# Altium footprint library PCB_LA150C_RDIVER_V1.00.PcbLib: 32 footprints (part 2 of 2)
Each footprint in its own frame and in the unit in brackets; x right, y up, seen from the top. Pads: shape width x height; smd on the part's side, far side on the other; paste and mask are expansions set on the pad; w line width, h text height; cw(c..) or ccw(c..) is an arc to the next point about the centre after c.
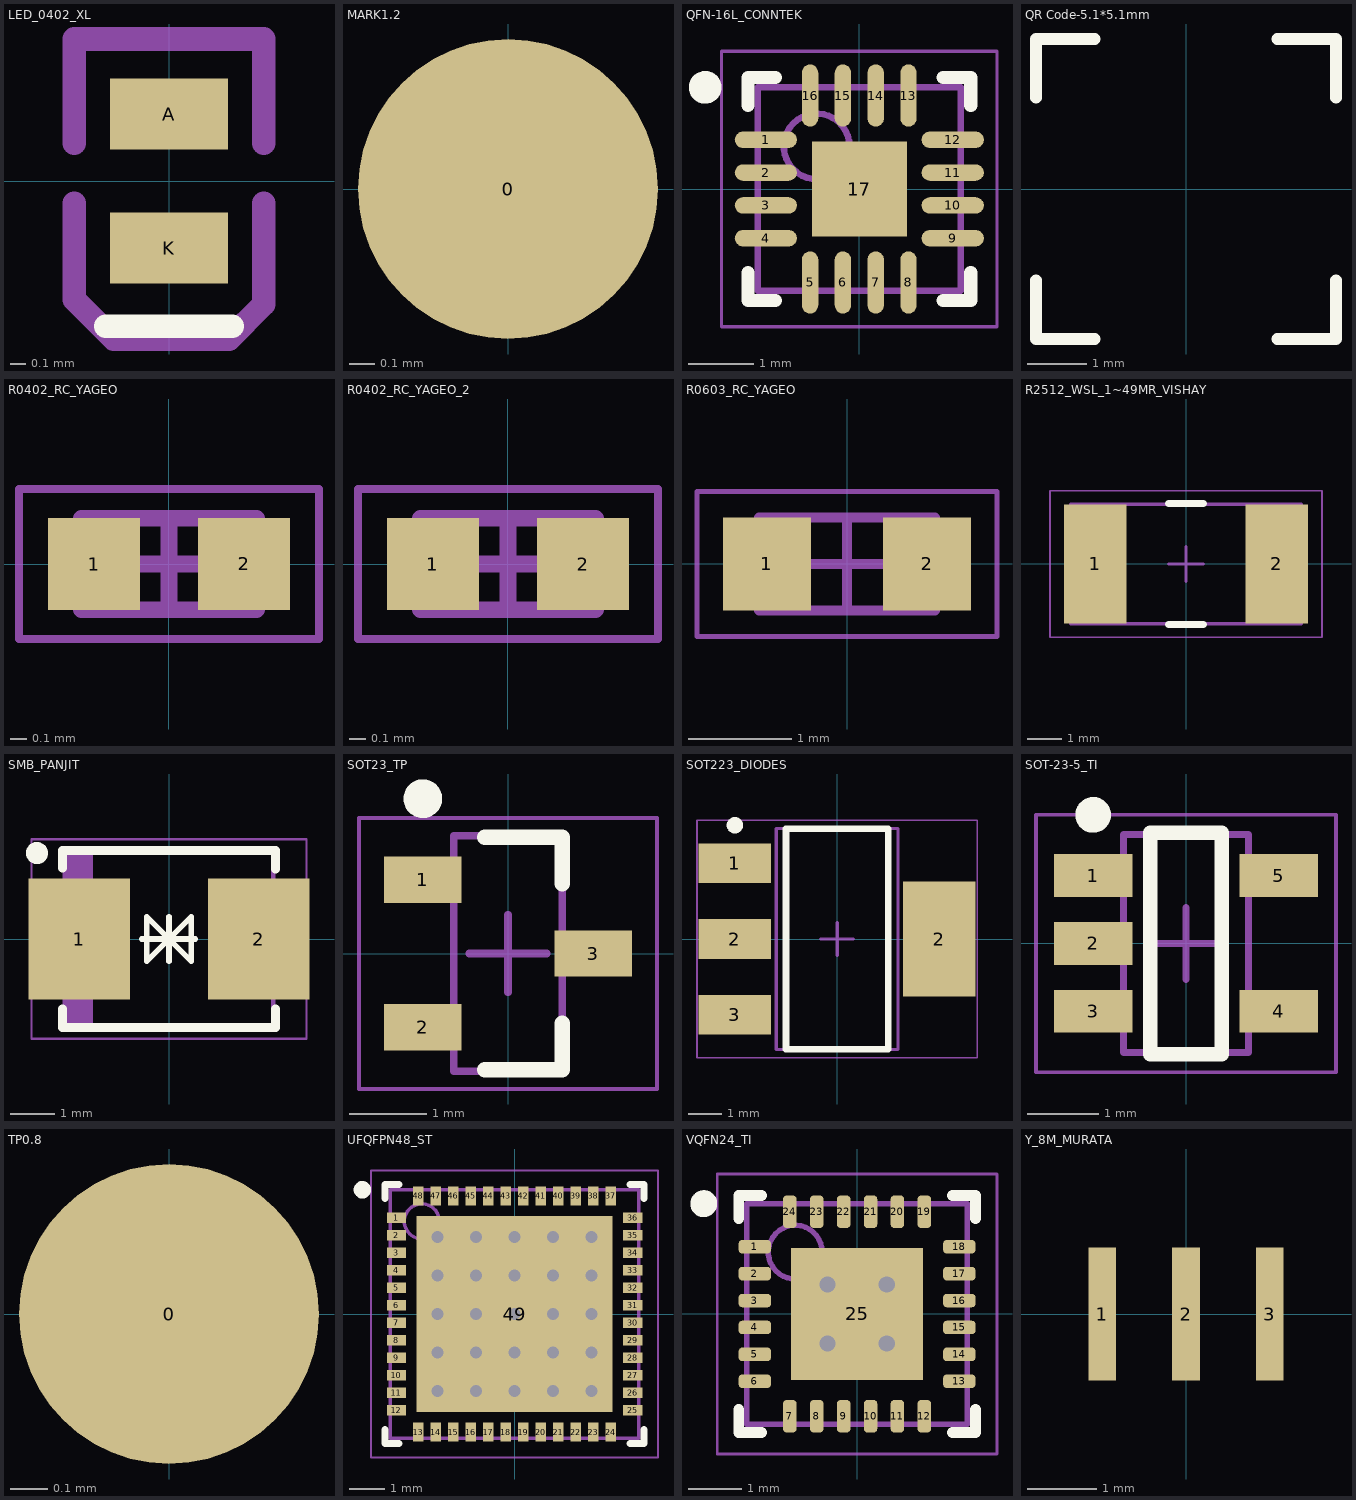
[diagram p1: the footprints below, top view; thin cyan lines are the x and y axes]

## LED_0402_XL [mm]
height 0.45
pads (2):
  rect 0.75x0.45 smd: A(0,0.425) K(0,-0.425)
Top Overlay:
  lines w0.15: -0.4,-0.92 0.4,-0.92
Mechanical 15:
  lines w0.15: -0.6,-0.139 -0.6,-0.75 -0.35,-1 0.38,-1 0.6,-0.78 0.6,-0.139 ; -0.6,0.241 -0.6,0.9 0.6,0.9 0.6,0.241
3D body: height 0.45, standoff 0, extent -0.275,-0.55 0.275,0.55
3D body: height 0.1, standoff -0.01, extent -0.275,-0.55 0.275,-0.25
3D body: height 0.1, standoff -0.01, extent -0.275,0.25 0.275,0.55

## MARK1.2 [mm]
height 0.01
pads (1):
  round 1.2 smd mask+0.4: 0(0,0)

## QFN-16L_CONNTEK [mm] "QFN, 16-Leads, Body 3.00x3.00mm, Pitch 0.50mm, Thermal Pad 1.45x1.45mm, IPC Medium Density"
height 0.8
pads (17):
  oval 0.95x0.25 smd mask+0.06: 1(-1.425,0.75) 2(-1.425,0.25) 3(-1.425,-0.25) 4(-1.425,-0.75) 9(1.425,-0.75) 10(1.425,-0.25) 11(1.425,0.25) 12(1.425,0.75)
  oval 0.25x0.95 smd mask+0.06: 5(-0.75,-1.425) 6(-0.25,-1.425) 7(0.25,-1.425) 8(0.75,-1.425) 13(0.75,1.425) 14(0.25,1.425) 15(-0.25,1.425) 16(-0.75,1.425)
  rect 1.45x1.45 smd mask+0.06: 17(0,0)
Top Overlay:
  circle w0.25: c-2.35,1.55 r0.125
  lines w0.2: -1.7,-1.275 -1.7,-1.7 -1.275,-1.7 ; -1.7,1.275 -1.7,1.7 -1.275,1.7 ; 1.275,-1.7 1.7,-1.7 1.7,-1.275 ; 1.275,1.7 1.7,1.7 1.7,1.275
Mechanical 13:
  circle w0.1: c-0.65,0.65 r0.5
  lines w0.1: -1.55,-1.55 1.55,-1.55 1.55,1.55 -1.55,1.55 -1.55,-1.55
Mechanical 15:
  lines w0.05: -2.1,-2.1 2.1,-2.1 2.1,2.1 -2.1,2.1 -2.1,-2.1
  lines w0.1: -0.5,0 0.5,0 ; 0,-0.5 0,0.5
3D body "QFN50P300X300X80_HS-17N.step": height 0.8, standoff 0, extent -1.551,-1.551 1.551,1.551

## QR Code-5.1*5.1mm [mm]
height 0.01
Top Overlay:
  lines w0.2: -2.55,-1.55 -2.55,-2.55 -1.55,-2.55 ; -2.55,1.55 -2.55,2.55 -1.55,2.55 ; 1.55,2.55 2.55,2.55 2.55,1.55 ; 1.55,-2.55 2.55,-2.55 2.55,-1.55

## R0402_RC_YAGEO [mm] "Chip Resistor, 2-Leads, Body 1.00x0.50mm, IPC Medium Density"
height 0.4
pads (2):
  rect 0.55x0.55 smd mask+0.08: 1(-0.45,0) 2(0.45,0)
Mechanical 13:
  lines w0.1: -0.525,-0.275 0.525,-0.275 0.525,0.275 -0.525,0.275 -0.525,-0.275
Mechanical 15:
  lines w0.05: -0.9,-0.45 0.9,-0.45 0.9,0.45 -0.9,0.45 -0.9,-0.45
  lines w0.1: -0.275,0 0.275,0 ; 0,-0.275 0,0.275
3D body "RESC1005X04N.step": height 0.4, standoff 0, extent -0.525,-0.275 0.525,0.275

## R0402_RC_YAGEO_2 [mm]
pads (2):
  rect 0.55x0.55 smd mask+0.08: 1(-0.45,0) 2(0.45,0)
Mechanical 13:
  lines w0.1: -0.525,-0.275 -0.525,0.275 0.525,0.275 0.525,-0.275 -0.525,-0.275
Mechanical 15:
  lines w0.05: -0.9,-0.45 -0.9,0.45 0.9,0.45 0.9,-0.45 -0.9,-0.45
  lines w0.1: -0.275,0 0.275,0 ; 0,-0.275 0,0.275
3D body "RESC1005X04N.step": height 0.4, standoff 0, extent -0.525,-0.275 0.525,0.275

## R0603_RC_YAGEO [mm] "Chip Resistor, 2-Leads, Body 1.60x0.80mm, IPC Medium Density"
height 0.55
pads (2):
  rect 0.85x0.9 smd: 1(-0.775,0) 2(0.775,0)
Mechanical 13:
  lines w0.1: -0.85,-0.45 0.85,-0.45 0.85,0.45 -0.85,0.45 -0.85,-0.45
Mechanical 15:
  lines w0.05: -1.45,-0.7 1.45,-0.7 1.45,0.7 -1.45,0.7 -1.45,-0.7
  lines w0.1: -0.45,0 0.45,0 ; 0,-0.45 0,0.45
3D body "RESC1608X06N.step": height 0.55, standoff 0, extent -0.85,-0.45 0.85,0.45

## R2512_WSL_1~49MR_VISHAY [mm] "Chip Resistor, 2-Leads, Body 6.35x3.18mm, IPC Medium Density"
height 0.89
pads (2):
  rect 1.8x3.4 smd: 1(-2.6,0) 2(2.6,0)
Top Overlay:
  lines w0.2: -0.5,-1.74 0.5,-1.74 ; -0.5,1.74 0.5,1.74
Mechanical 13:
  lines w0.1: -3.3,-1.715 -3.3,1.715 3.3,1.715 3.3,-1.715 -3.3,-1.715
Mechanical 15:
  lines w0.05: -3.9,-2.1 -3.9,2.1 3.9,2.1 3.9,-2.1 -3.9,-2.1
  lines w0.1: -0.5,0 0.5,0 ; 0,-0.5 0,0.5
3D body "RESC6432X09N.step": height 0.89, standoff 0, extent -3.3,-1.715 3.3,1.715

## SMB_PANJIT [mm] "Molded Diode, 2-Leads, Body 4.38x3.62mm, IPC Medium Density"
height 2.44
pads (2):
  rect 2.29x2.72 smd: 1(-2.025,0) 2(2.025,0)
Top Overlay:
  circle w0.25: c-2.98,1.94 r0.125
  lines w0.127: -0.615,0 0.225,0 ; -0.225,0 0.594,0 ; 0,-0.5 0,0.5 ; 0,0 0.5,-0.5 0.5,0.5 0,0 ; 0,0 -0.5,0.5 -0.5,-0.5 0,0
  lines w0.2: -2.4,-1.58 -2.4,-2 2.4,-2 2.4,-1.58 ; -2.4,1.6 -2.4,2 2.4,2 2.4,1.58
Mechanical 13:
  rectangle: -2.35,-1.97 -1.718,1.97
  lines w0.1: -2.35,-1.97 2.35,-1.97 2.35,1.97 -2.35,1.97 -2.35,-1.97
Mechanical 15:
  lines w0.05: -3.1,-2.25 3.1,-2.25 3.1,2.25 -3.1,2.25 -3.1,-2.25
  lines w0.1: -0.5,0 0.5,0 ; 0,-0.5 0,0.5
3D body "DIOM4436X24N.step": height 2.44, standoff 0, extent -2.57,-1.97 2.57,1.97

## SOT23_TP [mm] "SOT23, 3-Leads, Body 2.92x2.37mm, Pitch 0.95mm, IPC Medium Density"
height 1.12
pads (3):
  rect 1x0.6 smd: 1(-1.1,0.95) 2(-1.1,-0.95) 3(1.1,0)
Top Overlay:
  circle w0.25: c-1.1,2 r0.125
  lines w0.2: -0.3,-1.5 0.7,-1.5 0.7,-0.9 ; -0.3,1.5 0.7,1.5 0.7,0.9
Mechanical 13:
  lines w0.1: -0.7,-1.52 0.7,-1.52 0.7,1.52 -0.7,1.52 -0.7,-1.52
Mechanical 15:
  lines w0.05: -1.925,-1.75 1.925,-1.75 1.925,1.75 -1.925,1.75 -1.925,-1.75
  lines w0.1: -0.5,0 0.5,0 ; 0,-0.5 0,0.5
3D body "SOT95P237X112-3N.step": height 1.12, standoff 0, extent -1.32,-1.52 1.32,1.52

## SOT223_DIODES [mm] "SOT223, 4-Leads, Body 6.50x7.00mm (avg), Pitch 2.30mm, IPC Medium Density"
height 1.8
pads (4):
  rect 2.2x1.2 smd: 1(-3.1,2.3) 2(-3.1,0) 3(-3.1,-2.3)
  rect 2.2x3.5 smd: 2(3.1,0)
Top Overlay:
  circle w0.25: c-3.1,3.45 r0.125
  lines w0.2: -1.55,-3.35 -1.55,3.35 1.55,3.35 1.55,-3.35 -1.55,-3.35
Mechanical 13:
  lines w0.1: -1.85,-3.35 -1.85,3.35 1.85,3.35 1.85,-3.35 -1.85,-3.35
Mechanical 15:
  lines w0.05: -4.25,-3.6 -4.25,3.6 4.25,3.6 4.25,-3.6 -4.25,-3.6
  lines w0.1: -0.5,0 0.5,0 ; 0,-0.5 0,0.5
3D body "2.step": height 1.8, standoff 0, extent -3.5,-3.35 3.5,3.35

## SOT-23-5_TI [mm] "SOT23, 5-Leads, Body 2.90x2.80mm, Pitch 0.95mm, IPC Medium Density"
height 1.45
pads (5):
  rect 1.1x0.6 smd mask+0.1: 1(-1.3,0.95) 2(-1.3,0) 3(-1.3,-0.95) 4(1.3,-0.95) 5(1.3,0.95)
Top Overlay:
  circle w0.25: c-1.3,1.8 r0.125
  lines w0.2: -0.5,-1.55 0.5,-1.55 0.5,1.55 -0.5,1.55 -0.5,-1.55
Mechanical 13:
  lines w0.1: -0.875,-1.525 -0.875,1.525 0.875,1.525 0.875,-1.525 -0.875,-1.525
Mechanical 15:
  lines w0.05: -2.1,-1.8 -2.1,1.8 2.1,1.8 2.1,-1.8 -2.1,-1.8
  lines w0.1: -0.5,0 0.5,0 ; 0,-0.5 0,0.5
3D body "SOT95P280X145-5N.step": height 1.45, standoff 0, extent -1.5,-1.525 1.5,1.525

## TP0.8 [mm]
height 0.01
pads (1):
  round 0.8 smd mask+0: 0(0,0)

## UFQFPN48_ST [mm] "QFN, 48-Leads, Body 7.00x7.00mm, Pitch 0.50mm, Thermal Pad 5.60x5.60mm, IPC Medium Density"
height 0.6
pads (49):
  rect 0.55x0.3 smd mask+0.06: 1(-3.375,2.75) 2(-3.375,2.25) 3(-3.375,1.75) 4(-3.375,1.25) 5(-3.375,0.75) 6(-3.375,0.25) 7(-3.375,-0.25) 8(-3.375,-0.75) 9(-3.375,-1.25) 10(-3.375,-1.75) 11(-3.375,-2.25) 12(-3.375,-2.75) 25(3.375,-2.75) 26(3.375,-2.25) 27(3.375,-1.75) 28(3.375,-1.25) 29(3.375,-0.75) 30(3.375,-0.25) 31(3.375,0.25) 32(3.375,0.75) 33(3.375,1.25) 34(3.375,1.75) 35(3.375,2.25) 36(3.375,2.75)
  rect 0.3x0.55 smd mask+0.06: 13(-2.75,-3.375) 14(-2.25,-3.375) 15(-1.75,-3.375) 16(-1.25,-3.375) 17(-0.75,-3.375) 18(-0.25,-3.375) 19(0.25,-3.375) 20(0.75,-3.375) 21(1.25,-3.375) 22(1.75,-3.375) 23(2.25,-3.375) 24(2.75,-3.375) 37(2.75,3.375) 38(2.25,3.375) 39(1.75,3.375) 40(1.25,3.375) 41(0.75,3.375) 42(0.25,3.375) 43(-0.25,3.375) 44(-0.75,3.375) 45(-1.25,3.375) 46(-1.75,3.375) 47(-2.25,3.375) 48(-2.75,3.375)
  rect 5.6x5.6 smd mask+0.06: 49(0,0)
via -2.2,2.2 diameter 0.6 hole 0.35
via -1.1,2.2 diameter 0.6 hole 0.35
via 0,2.2 diameter 0.6 hole 0.35
via 1.1,2.2 diameter 0.6 hole 0.35
via 2.2,2.2 diameter 0.6 hole 0.35
via -2.2,1.1 diameter 0.6 hole 0.35
via -1.1,1.1 diameter 0.6 hole 0.35
via 0,1.1 diameter 0.6 hole 0.35
via 1.1,1.1 diameter 0.6 hole 0.35
via 2.2,1.1 diameter 0.6 hole 0.35
via -2.2,0 diameter 0.6 hole 0.35
via -1.1,0 diameter 0.6 hole 0.35
via 0,0 diameter 0.6 hole 0.35
via 1.1,0 diameter 0.6 hole 0.35
via 2.2,0 diameter 0.6 hole 0.35
via -2.2,-1.1 diameter 0.6 hole 0.35
via -1.1,-1.1 diameter 0.6 hole 0.35
via 0,-1.1 diameter 0.6 hole 0.35
via 1.1,-1.1 diameter 0.6 hole 0.35
via 2.2,-1.1 diameter 0.6 hole 0.35
via -2.2,-2.2 diameter 0.6 hole 0.35
via -1.1,-2.2 diameter 0.6 hole 0.35
via 0,-2.2 diameter 0.6 hole 0.35
via 1.1,-2.2 diameter 0.6 hole 0.35
via 2.2,-2.2 diameter 0.6 hole 0.35
Top Overlay:
  circle w0.25: c-4.35,3.55 r0.125
  lines w0.2: -3.7,-3.3 -3.7,-3.7 -3.3,-3.7 ; -3.7,3.3 -3.7,3.7 -3.3,3.7 ; 3.3,-3.7 3.7,-3.7 3.7,-3.3 ; 3.3,3.7 3.7,3.7 3.7,3.3
Mechanical 13:
  circle w0.1: c-2.65,2.65 r0.5
  lines w0.1: -3.55,-3.55 -3.55,3.55 3.55,3.55 3.55,-3.55 -3.55,-3.55
Mechanical 15:
  lines w0.05: -4.1,-4.1 -4.1,4.1 4.1,4.1 4.1,-4.1 -4.1,-4.1
  lines w0.1: -0.5,0 0.5,0 ; 0,-0.5 0,0.5
3D body "QFN50P700X700X60_HS-49N.step": height 0.6, standoff 0, extent -3.551,-3.551 3.551,3.551

## VQFN24_TI [mm] "QFN, 24-Leads, Body 4.00x4.00mm, Pitch 0.50mm, Thermal Pad 2.45x2.45mm, IPC Medium Density"
height 1
pads (25):
  rrect50% 0.6x0.25 smd mask+0.06: 1(-1.9,1.25) 2(-1.9,0.75) 3(-1.9,0.25) 4(-1.9,-0.25) 5(-1.9,-0.75) 6(-1.9,-1.25) 13(1.9,-1.25) 14(1.9,-0.75) 15(1.9,-0.25) 16(1.9,0.25) 17(1.9,0.75) 18(1.9,1.25)
  rrect50% 0.25x0.6 smd mask+0.06: 7(-1.25,-1.9) 8(-0.75,-1.9) 9(-0.25,-1.9) 10(0.25,-1.9) 11(0.75,-1.9) 12(1.25,-1.9) 19(1.25,1.9) 20(0.75,1.9) 21(0.25,1.9) 22(-0.25,1.9) 23(-0.75,1.9) 24(-1.25,1.9)
  rect 2.45x2.45 smd mask+0.06: 25(0,0)
via -0.55,0.55 diameter 0.6 hole 0.3
via 0.55,0.55 diameter 0.6 hole 0.3
via 0.55,-0.55 diameter 0.6 hole 0.3
via -0.55,-0.55 diameter 0.6 hole 0.3
Top Overlay:
  circle w0.25: c-2.85,2.05 r0.125
  lines w0.2: -2.2,-1.775 -2.2,-2.2 -1.775,-2.2 ; -2.2,1.775 -2.2,2.2 -1.775,2.2 ; 1.775,-2.2 2.2,-2.2 2.2,-1.775 ; 1.775,2.2 2.2,2.2 2.2,1.775
Mechanical 13:
  circle w0.1: c-1.15,1.15 r0.5
  lines w0.1: -2.05,-2.05 -2.05,2.05 2.05,2.05 2.05,-2.05 -2.05,-2.05
Mechanical 15:
  lines w0.05: -2.6,-2.6 -2.6,2.6 2.6,2.6 2.6,-2.6 -2.6,-2.6
  lines w0.1: -0.5,0 0.5,0 ; 0,-0.5 0,0.5
3D body "QFN50P400X400X100_HS-25N.step": height 1, standoff 0, extent -2.051,-2.051 2.051,2.051

## Y_8M_MURATA [mm]
height 0.8
pads (3):
  rect 0.4x1.9 smd: 1(-1.2,0) 2(0,0) 3(1.2,0)
3D body: height 0.1, standoff -0.01, extent -1.45,-0.725 -0.95,0.725
3D body: height 0.1, standoff -0.01, extent 0.95,-0.725 1.45,0.725
3D body: height 0.1, standoff -0.01, extent -0.25,-0.725 0.25,0.725
3D body: height 0.8, standoff 0, extent -1.675,-0.725 1.675,0.725